# Altium schematic symbol library D_TVS_BIDIR_USB.Schlib: 1 symbol
Pins are listed as number, name and electrical type; pins without a type are passive.

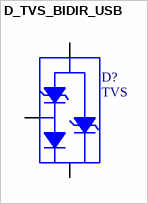
[diagram p0: symbol D_TVS_BIDIR_USB]

## D_TVS_BIDIR_USB
designator D?, comment TVS
pins: 1, 2, 3